# Altium integrated library MAX7219CNG.IntLib: 1 symbol
Pins are listed as number, name and electrical type; pins without a type are passive.

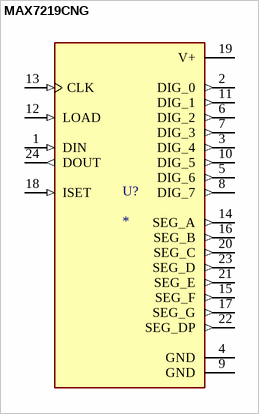
[diagram p0: symbol MAX7219CNG]

## MAX7219CNG
designator U?
MP: MAX7219CNG; Package: None; Price: None; Value: *; Availability: Unavailable
footprint DIP762W47P254L3054H457Q24B
pins: 1 DIN (in), 2 DIG_0 (out), 3 DIG_4 (out), 4 GND (power), 5 DIG_6 (out), 6 DIG_2 (out), 7 DIG_3 (out), 8 DIG_7 (out), 9 GND (power), 10 DIG_5 (out), 11 DIG_1 (out), 12 LOAD (in), 13 CLK (in), 14 SEG_A (out), 15 SEG_F (out), 16 SEG_B (out), 17 SEG_G (out), 18 ISET (in), 19 V+ (power), 20 SEG_C (out), 21 SEG_E (out), 22 SEG_DP (out), 23 SEG_D (out), 24 DOUT (out)